# Altium footprint library CONN_W2B_JST.PcbLib: 168 footprints (part 8 of 11)
Each footprint in its own frame and in the unit in brackets; x right, y up, seen from the top. Pads: shape width x height; smd on the part's side, far side on the other; paste and mask are expansions set on the pad; w line width, h text height; cw(c..) or ccw(c..) is an arc to the next point about the centre after c.
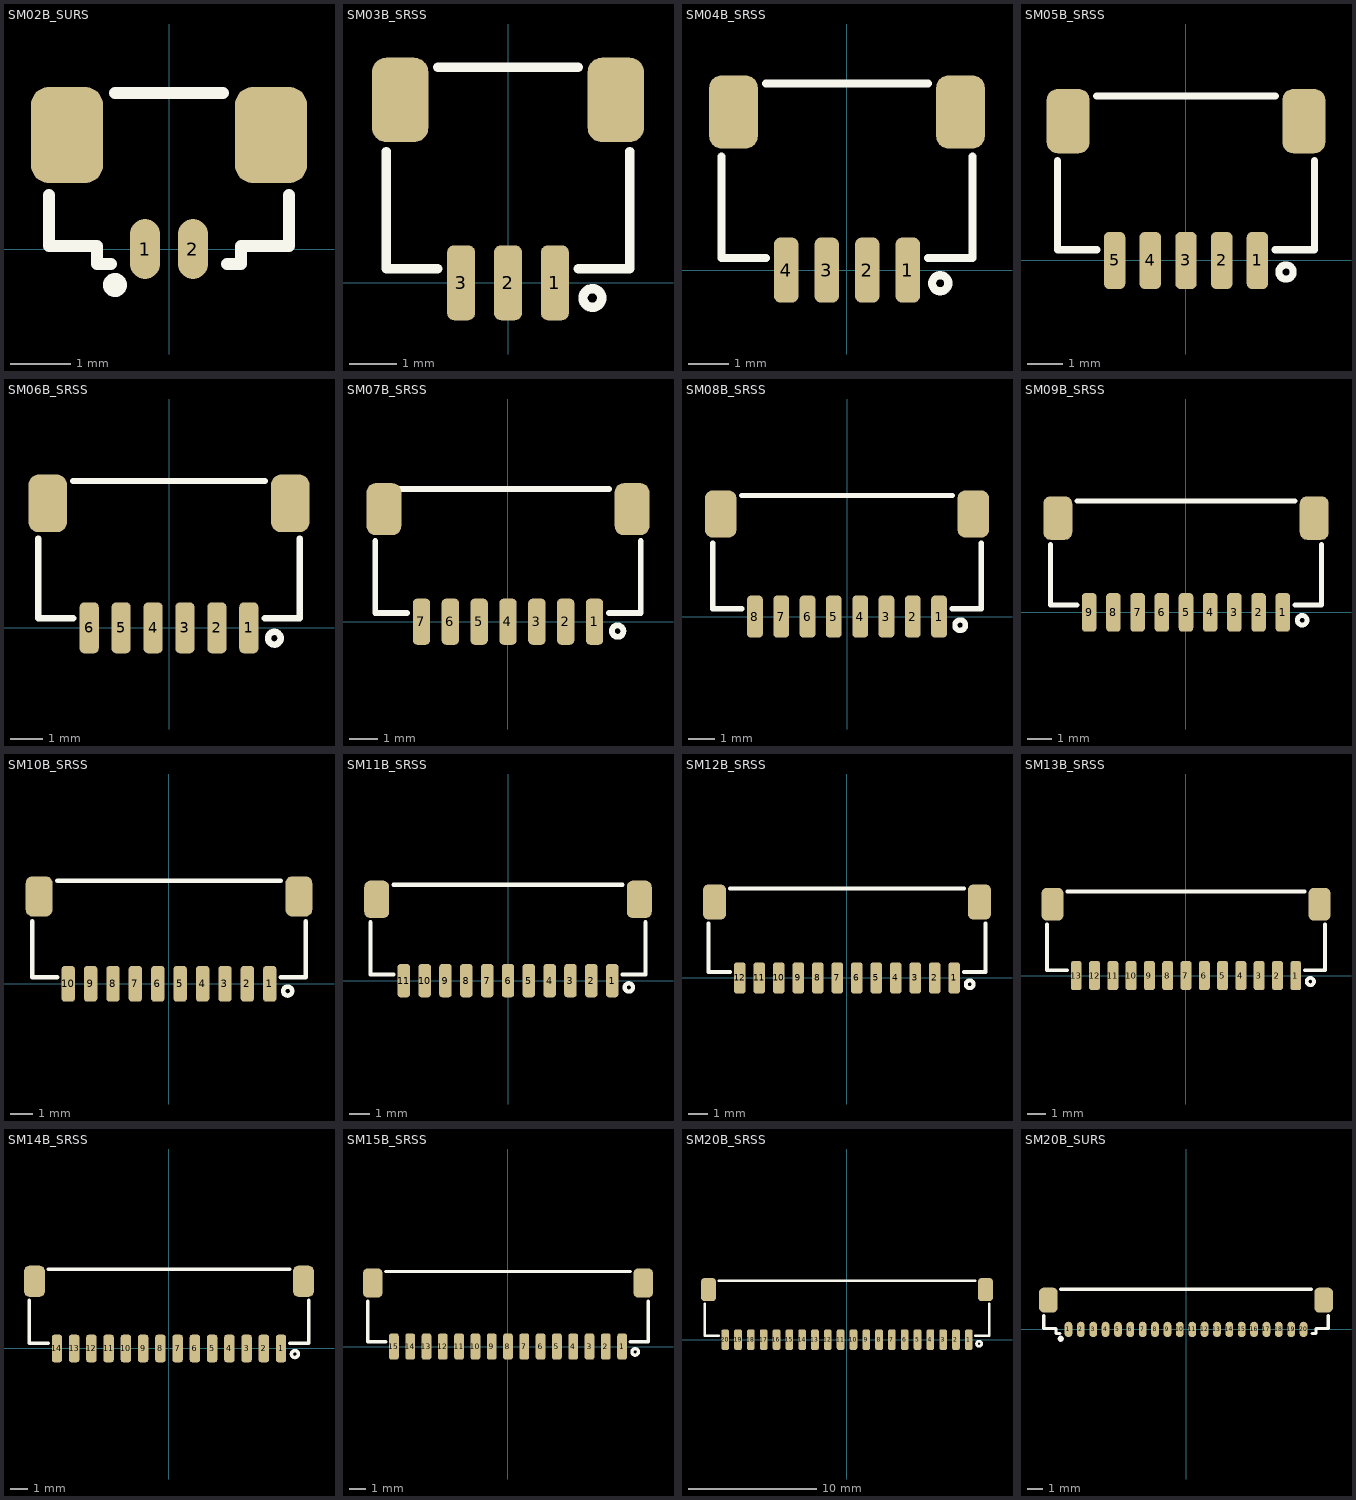
[diagram p7: the footprints below, top view; thin cyan lines are the x and y axes]

## SM02B_SURS [mm] "eSUR, Pitch: 0.8mm, side Entry"
height 1.75
pads (4):
  oval 0.5x1 smd mask+0.075: 1(-0.4,0) 2(0.4,0)
  rrect50% 1.2x1.6 smd: ""(-1.7,1.9) ""(1.7,1.9)
Top Overlay:
  circle w0.2: c-0.9,-0.6 r0.1
  lines w0.2: -2,0.9 -2,0.05 -1.2,0.05 -1.2,-0.25 -0.963,-0.25 ; -0.9,2.6 0.9,2.6 ; 0.963,-0.25 1.2,-0.25 1.2,0.05 2,0.05 2,0.9
3D body "SM02B-SURS-TF.STEP": height 1.75, standoff 0, extent -1.9,-0.2 1.9,2.5

## SM03B_SRSS [mm] "SH, Pitch: 1mm, side Entry, SMxxB-SRSS-TB"
pads (5):
  rrect50% 0.6x1.6 smd mask+0.075: 1(1,0) 2(0,0) 3(-1,0)
  rrect50% 1.2x1.8 smd mask+0.075: ""(-2.3,3.9) ""(2.3,3.9)
Top Overlay:
  circle w0.2: c1.8,-0.325 r0.2
  lines w0.2: -2.6,2.8 -2.6,0.3 -1.5,0.3 ; -1.5,4.6 1.5,4.6 ; 1.5,0.3 2.6,0.3 2.6,2.8
3D body "SM03B-SRSS-TB.STEP": height 2.96, standoff 0, extent -2.5,-0.455 2.5,4.495

## SM04B_SRSS [mm] "SH, Pitch: 1mm, side Entry, SMxxB-SRSS-TB"
pads (6):
  rrect50% 0.6x1.6 smd mask+0.075: 1(1.5,0) 2(0.5,0) 3(-0.5,0) 4(-1.5,0)
  rrect50% 1.2x1.8 smd mask+0.075: ""(-2.8,3.9) ""(2.8,3.9)
Top Overlay:
  circle w0.2: c2.3,-0.325 r0.2
  lines w0.2: -3.1,2.8 -3.1,0.3 -2,0.3 ; -2,4.6 2,4.6 ; 2,0.3 3.1,0.3 3.1,2.8
3D body "SM04B-SRSS-TB.STEP": height 2.96, standoff 0, extent -3,-0.455 3,4.495

## SM05B_SRSS [mm] "SH, Pitch: 1mm, side Entry, SMxxB-SRSS-TB"
pads (7):
  rrect50% 0.6x1.6 smd mask+0.075: 1(2,0) 2(1,0) 3(0,0) 4(-1,0) 5(-2,0)
  rrect50% 1.2x1.8 smd mask+0.075: ""(-3.3,3.9) ""(3.3,3.9)
Top Overlay:
  circle w0.2: c2.8,-0.325 r0.2
  lines w0.2: -3.6,2.8 -3.6,0.3 -2.5,0.3 ; -2.5,4.6 2.5,4.6 ; 2.5,0.3 3.6,0.3 3.6,2.8
3D body "SM05B-SRSS-TB.STEP": height 2.96, standoff 0, extent -3.5,-0.4 3.5,4.55

## SM06B_SRSS [mm] "SH, Pitch: 1mm, side Entry, SMxxB-SRSS-TB"
pads (8):
  rrect50% 0.6x1.6 smd mask+0.075: 1(2.5,0) 2(1.5,0) 3(0.5,0) 4(-0.5,0) 5(-1.5,0) 6(-2.5,0)
  rrect50% 1.2x1.8 smd mask+0.075: ""(-3.8,3.9) ""(3.8,3.9)
Top Overlay:
  circle w0.2: c3.3,-0.325 r0.2
  lines w0.2: -4.1,2.8 -4.1,0.3 -3,0.3 ; -3,4.6 3,4.6 ; 3,0.3 4.1,0.3 4.1,2.8
3D body "SM06B-SRSS-TB.STEP": height 2.96, standoff 0, extent -4,-0.4 4,4.55

## SM07B_SRSS [mm] "SH, Pitch: 1mm, side Entry, SMxxB-SRSS-TB"
pads (9):
  rrect50% 0.6x1.6 smd mask+0.075: 1(3,0) 2(2,0) 3(1,0) 4(0,0) 5(-1,0) 6(-2,0) 7(-3,0)
  rrect50% 1.2x1.8 smd mask+0.075: ""(-4.3,3.9) ""(4.3,3.9)
Top Overlay:
  circle w0.2: c3.8,-0.325 r0.2
  lines w0.2: -4.6,2.8 -4.6,0.3 -3.5,0.3 ; -4.5,4.6 3.5,4.6 ; 3.5,0.3 4.6,0.3 4.6,2.8
3D body "SM07B-SRSS-TB.STEP": height 2.96, standoff 0, extent -4.5,-0.4 4.5,4.55

## SM08B_SRSS [mm] "SH, Pitch: 1mm, side Entry, SMxxB-SRSS-TB"
pads (10):
  rrect50% 0.6x1.6 smd mask+0.075: 1(3.5,0) 2(2.5,0) 3(1.5,0) 4(0.5,0) 5(-0.5,0) 6(-1.5,0) 7(-2.5,0) 8(-3.5,0)
  rrect50% 1.2x1.8 smd mask+0.075: ""(-4.8,3.9) ""(4.8,3.9)
Top Overlay:
  circle w0.2: c4.3,-0.325 r0.2
  lines w0.2: -5.1,2.8 -5.1,0.3 -4,0.3 ; -4,4.6 4,4.6 ; 4,0.3 5.1,0.3 5.1,2.8
3D body "SM08B-SRSS-TB--3DModel-STEP-269445.STEP": height 2.95, standoff 0, extent -5,-0.4 5,4.549

## SM09B_SRSS [mm] "SH, Pitch: 1mm, side Entry, SMxxB-SRSS-TB"
pads (11):
  rrect50% 0.6x1.6 smd mask+0.075: 1(4,0) 2(3,0) 3(2,0) 4(1,0) 5(0,0) 6(-1,0) 7(-2,0) 8(-3,0) 9(-4,0)
  rrect50% 1.2x1.8 smd mask+0.075: ""(-5.3,3.9) ""(5.3,3.9)
Top Overlay:
  circle w0.2: c4.8,-0.325 r0.2
  lines w0.2: -5.6,2.8 -5.6,0.3 -4.5,0.3 ; -4.5,4.6 4.5,4.6 ; 4.5,0.3 5.6,0.3 5.6,2.8
3D body "SM09B-SRSS-TB.STEP": height 2.96, standoff 0, extent -5.5,-0.4 5.5,4.55

## SM10B_SRSS [mm] "SH, Pitch: 1mm, side Entry, SMxxB-SRSS-TB"
pads (12):
  rrect50% 0.6x1.6 smd mask+0.075: 1(4.5,0) 2(3.5,0) 3(2.5,0) 4(1.5,0) 5(0.5,0) 6(-0.5,0) 7(-1.5,0) 8(-2.5,0) 9(-3.5,0) 10(-4.5,0)
  rrect50% 1.2x1.8 smd mask+0.075: ""(-5.8,3.9) ""(5.8,3.9)
Top Overlay:
  circle w0.2: c5.3,-0.325 r0.2
  lines w0.2: -6.1,2.8 -6.1,0.3 -5,0.3 ; -5,4.6 5,4.6 ; 5,0.3 6.1,0.3 6.1,2.8
3D body "SM10B-SRSS-TB.STEP": height 2.96, standoff 0, extent -6,-0.4 6,4.55

## SM11B_SRSS [mm] "SH, Pitch: 1mm, side Entry, SMxxB-SRSS-TB"
pads (13):
  rrect50% 0.6x1.6 smd mask+0.075: 1(5,0) 2(4,0) 3(3,0) 4(2,0) 5(1,0) 6(0,0) 7(-1,0) 8(-2,0) 9(-3,0) 10(-4,0) 11(-5,0)
  rrect50% 1.2x1.8 smd mask+0.075: ""(-6.3,3.9) ""(6.3,3.9)
Top Overlay:
  circle w0.2: c5.8,-0.325 r0.2
  lines w0.2: -6.6,2.8 -6.6,0.3 -5.5,0.3 ; -5.5,4.6 5.5,4.6 ; 5.5,0.3 6.6,0.3 6.6,2.8
3D body "SM11B-SRSS-TB.STEP": height 2.96, standoff 0, extent -6.5,-0.4 6.5,4.55

## SM12B_SRSS [mm] "SH, Pitch: 1mm, side Entry, SMxxB-SRSS-TB"
pads (14):
  rrect50% 0.6x1.6 smd mask+0.075: 1(5.5,0) 2(4.5,0) 3(3.5,0) 4(2.5,0) 5(1.5,0) 6(0.5,0) 7(-0.5,0) 8(-1.5,0) 9(-2.5,0) 10(-3.5,0) 11(-4.5,0) 12(-5.5,0)
  rrect50% 1.2x1.8 smd mask+0.075: ""(-6.8,3.9) ""(6.8,3.9)
Top Overlay:
  circle w0.2: c6.3,-0.325 r0.2
  lines w0.2: -7.1,2.8 -7.1,0.3 -6,0.3 ; -6,4.6 6,4.6 ; 6,0.3 7.1,0.3 7.1,2.8
3D body "SM12B-SRSS-TB.STEP": height 2.96, standoff 0, extent -7,-0.4 7,4.55

## SM13B_SRSS [mm] "SH, Pitch: 1mm, side Entry, SMxxB-SRSS-TB"
pads (15):
  rrect50% 0.6x1.6 smd mask+0.075: 1(6,0) 2(5,0) 3(4,0) 4(3,0) 5(2,0) 6(1,0) 7(0,0) 8(-1,0) 9(-2,0) 10(-3,0) 11(-4,0) 12(-5,0) 13(-6,0)
  rrect50% 1.2x1.8 smd mask+0.075: ""(-7.3,3.9) ""(7.3,3.9)
Top Overlay:
  circle w0.2: c6.8,-0.325 r0.2
  lines w0.2: -7.6,2.8 -7.6,0.3 -6.5,0.3 ; -6.5,4.6 6.5,4.6 ; 6.5,0.3 7.6,0.3 7.6,2.8
3D body "SM13B-SRSS-TB.STEP": height 2.96, standoff 0, extent -7.5,-0.4 7.5,4.55

## SM14B_SRSS [mm] "SH, Pitch: 1mm, side Entry, SMxxB-SRSS-TB"
pads (16):
  rrect50% 0.6x1.6 smd mask+0.075: 1(6.5,0) 2(5.5,0) 3(4.5,0) 4(3.5,0) 5(2.5,0) 6(1.5,0) 7(0.5,0) 8(-0.5,0) 9(-1.5,0) 10(-2.5,0) 11(-3.5,0) 12(-4.5,0) 13(-5.5,0) 14(-6.5,0)
  rrect50% 1.2x1.8 smd mask+0.075: ""(-7.8,3.9) ""(7.8,3.9)
Top Overlay:
  circle w0.2: c7.3,-0.325 r0.2
  lines w0.2: -8.1,2.8 -8.1,0.3 -7,0.3 ; -7,4.6 7,4.6 ; 7,0.3 8.1,0.3 8.1,2.8
3D body "SM14B-SRSS-TB.STEP": height 2.96, standoff 0, extent -8,-0.4 8,4.55

## SM15B_SRSS [mm] "SH, Pitch: 1mm, side Entry, SMxxB-SRSS-TB"
pads (17):
  rrect50% 0.6x1.6 smd mask+0.075: 1(7,0) 2(6,0) 3(5,0) 4(4,0) 5(3,0) 6(2,0) 7(1,0) 8(0,0) 9(-1,0) 10(-2,0) 11(-3,0) 12(-4,0) 13(-5,0) 14(-6,0) 15(-7,0)
  rrect50% 1.2x1.8 smd mask+0.075: ""(-8.3,3.9) ""(8.3,3.9)
Top Overlay:
  circle w0.2: c7.8,-0.325 r0.2
  lines w0.2: -8.6,2.8 -8.6,0.3 -7.5,0.3 ; -7.5,4.6 7.5,4.6 ; 7.5,0.3 8.6,0.3 8.6,2.8
3D body "SM15B-SRSS-TB.STEP": height 2.96, standoff 0, extent -8.5,-0.4 8.5,4.55

## SM20B_SRSS [mm] "SH, Pitch: 1mm, side Entry, SMxxB-SRSS-TB"
pads (22):
  rrect50% 0.6x1.6 smd mask+0.075: 1(9.5,0) 2(8.5,0) 3(7.5,0) 4(6.5,0) 5(5.5,0) 6(4.5,0) 7(3.5,0) 8(2.5,0) 9(1.5,0) 10(0.5,0) 11(-0.5,0) 12(-1.5,0) 13(-2.5,0) 14(-3.5,0) 15(-4.5,0) 16(-5.5,0) 17(-6.5,0) 18(-7.5,0) 19(-8.5,0) 20(-9.5,0)
  rrect50% 1.2x1.8 smd mask+0.075: ""(-10.8,3.9) ""(10.8,3.9)
Top Overlay:
  circle w0.2: c10.3,-0.325 r0.2
  lines w0.2: -11.1,2.8 -11.1,0.3 -10,0.3 ; -10,4.6 10,4.6 ; 10,0.3 11.1,0.3 11.1,2.8
3D body "SM20B-SRSS-TB.STEP": height 2.96, standoff 0, extent -11,-0.4 11,4.55

## SM20B_SURS [mm] "eSUR, Pitch: 0.8mm, side Entry"
height 1.75
pads (22):
  oval 0.5x1 smd mask+0.075: 1(-7.6,0) 2(-6.8,0) 3(-6,0) 4(-5.2,0) 5(-4.4,0) 6(-3.6,0) 7(-2.8,0) 8(-2,0) 9(-1.2,0) 10(-0.4,0) 11(0.4,0) 12(1.2,0) 13(2,0) 14(2.8,0) 15(3.6,0) 16(4.4,0) 17(5.2,0) 18(6,0) 19(6.8,0) 20(7.6,0)
  rrect50% 1.2x1.6 smd: ""(-8.9,1.9) ""(8.9,1.9)
Top Overlay:
  circle w0.2: c-8.1,-0.6 r0.1
  lines w0.2: -9.2,0.9 -9.2,0.05 -8.4,0.05 -8.4,-0.25 -8.163,-0.25 ; -8.1,2.6 8.1,2.6 ; 8.163,-0.25 8.4,-0.25 8.4,0.05 9.2,0.05 9.2,0.9
3D body "SM20B-SURS-TF.STEP": height 1.75, standoff 0, extent -9.1,-0.2 9.1,2.5